# Altium schematic symbol library Programmable Zener Diodes.SchLib: 1 symbol
Pins are listed as number, name and electrical type; pins without a type are passive.

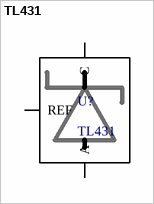
[diagram p0: symbol TL431]

## TL431
designator U?
footprint SOT-23-3 (SOT-23-3 package)
footprint LC-SOT-23(SOT-23-3)
pins: 1 C, 2 REF, 3 A